# Altium schematic symbol library Optocoupler.SchLib: 2 symbols
Pins are listed as number, name and electrical type; pins without a type are passive.

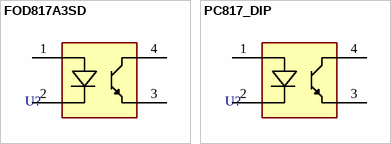
[diagram p0: symbols FOD817A3SD to PC817_DIP]

## FOD817A3SD
designator U?
OPTOISOLATOR 5KV TRANSISTOR 4SMD; Value: *; Manufacturer: *; Manufacturer Part Number 1: *
footprint FOD817A3SD
pins: 1 ANODE, 2 CATHODE, 3 EMITTER, 4 COLLECTOR

## PC817_DIP
designator U?
DIP-4 Transistor Output Optocoupler; Value: *; Manufacturer: *; Manufacturer Part Number 1: *
footprint PC817_DIP (DIP-4 Transistor Output Optocoupler)
pins: 1 ANODE, 2 CATHODE, 3 EMITTER, 4 COLLECTOR